# Altium footprint library DIP762W48P254L889H508Q6.PcbLib: 1 footprints
Each footprint in its own frame and in the unit in brackets; x right, y up, seen from the top. Pads: shape width x height; smd on the part's side, far side on the other; paste and mask are expansions set on the pad; w line width, h text height; cw(c..) or ccw(c..) is an arc to the next point about the centre after c.
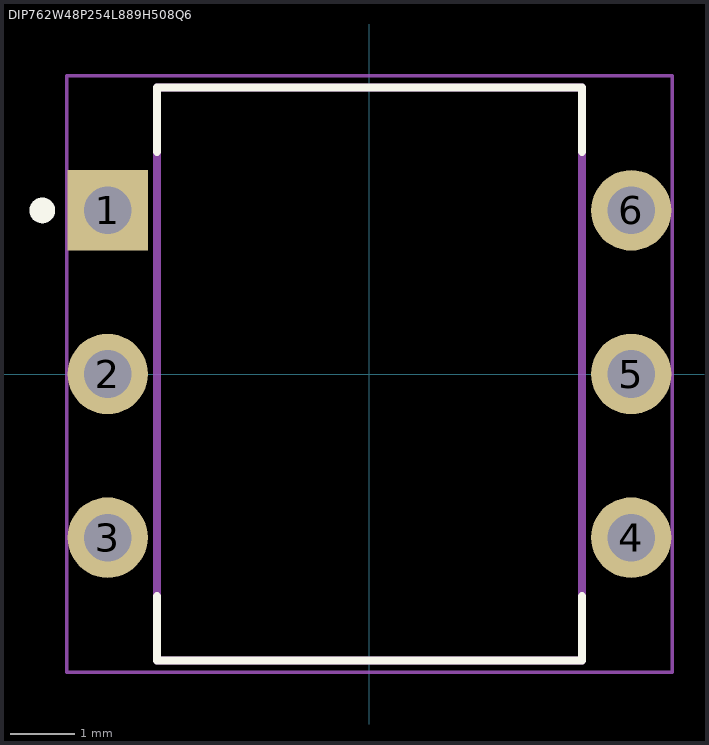
[diagram p0: the footprint, top view; thin cyan lines are the x and y axes]

## DIP762W48P254L889H508Q6 [mil]
pads (6):
  rect 49.13x49.13 hole 29.13: 1(-160,100)
  round 49.13 hole 29.13: 2(-160,0) 3(-160,-100) 4(160,-100) 5(160,0) 6(160,100)
Top Overlay:
  circle w7.87: c-200,100 r3.94
  lines w5: -129.92,-135.83 -129.92,-175.2 129.92,-175.2 129.92,-135.83 ; -129.92,135.83 -129.92,175.2 129.92,175.2 129.92,135.83
Mechanical 13:
  lines w5: -129.92,-175.2 -129.92,175.2 129.92,175.2 129.92,-175.2 -129.92,-175.2
Mechanical 15:
  lines w1.97: -185.04,-182.28 185.04,-182.28 185.04,182.28 -185.04,182.28 -185.04,-182.28
3D body "MOC3021--3DModel-STEP-56544.STEP": height 214.96, standoff -150, extent -193.06,-175 193.06,175